# Altium footprint library HX1188NL.PcbLib: 1 footprints
Each footprint in its own frame and in the unit in brackets; x right, y up, seen from the top. Pads: shape width x height; smd on the part's side, far side on the other; paste and mask are expansions set on the pad; w line width, h text height; cw(c..) or ccw(c..) is an arc to the next point about the centre after c.
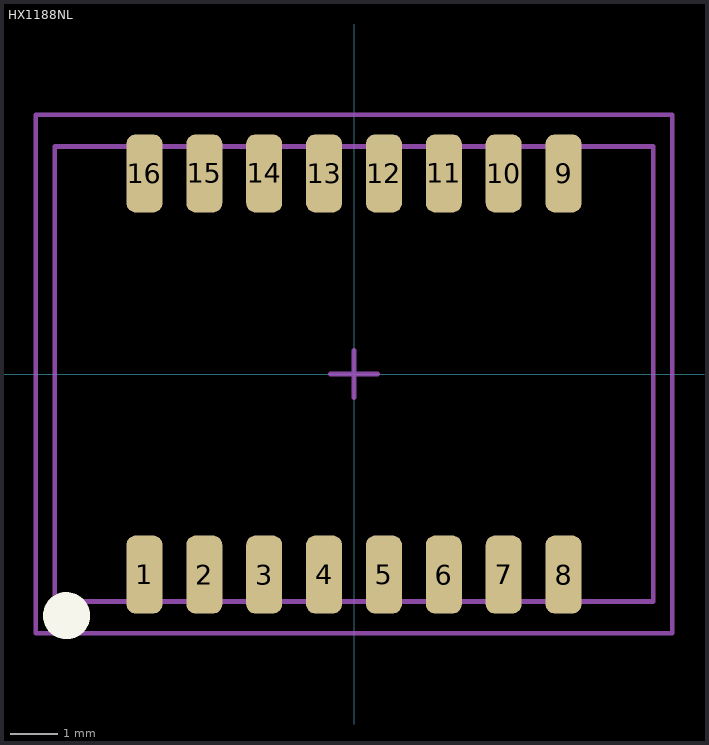
[diagram p0: the footprint, top view; thin cyan lines are the x and y axes]

## HX1188NL [mil]
pads (16):
  rrect50% 30x65 smd mask+1.97: 1(-175,-167.5) 2(-125,-167.5) 3(-75,-167.5) 4(-25,-167.5) 5(25,-167.5) 6(75,-167.5) 7(125,-167.5) 8(175,-167.5) 9(175,167.5) 10(125,167.5) 11(75,167.5) 12(25,167.5) 13(-25,167.5) 14(-75,167.5) 15(-125,167.5) 16(-175,167.5)
Top Overlay:
  circle w19.68: c-240.16,-201.85 r9.84
Top Assembly:
  lines w3.94: -250,-190 -250,190 250,190 250,-190 -250,-190
Top Courtyard:
  lines w3.94: -19.68,0 19.68,0 ; 0,-19.68 0,19.68 ; -265.75,-216.54 265.75,-216.54 265.75,216.54 -265.75,216.54 -265.75,-216.54
3D body "HX1188.STEP": height 236, standoff 0, extent -250,-189.99 250,190.01